# Altium schematic symbol library SignalMisc.SchLib: 3 symbols
Pins are listed as number, name and electrical type; pins without a type are passive.

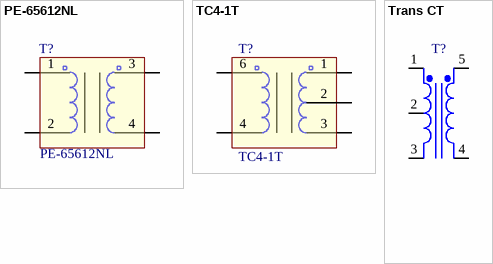
[diagram p0: symbols PE-65612NL to Trans CT]

## PE-65612NL
designator T?
Audio Transformers / Signal Transformers; value: PE-65612NL
pins: 1, 2, 3, 4

## TC4-1T
designator T?
RF WIDEBAND; value: TC4-1T
pins: 1, 2, 3, 4, 6

## Trans CT
designator T?
Center-Tapped Transformer (Coupled Inductor Model); Published: 8-Jun-2000; LatestRevisionDate: 17-Jul-2002; LatestRevisionNote: Re-released for DXP Platform.; PackageReference: TRF_5; Publisher: Altium Limited
footprint AUDIO_6N1
simulation model TRANSFORMER (Transformer)
pins: 1 Sec+, 2 SecCT, 3 Sec-, 4 Pri-, 5 Pri+